# Altium schematic symbol library Schlib.SchLib: 10 symbols
Pins are listed as number, name and electrical type; pins without a type are passive.

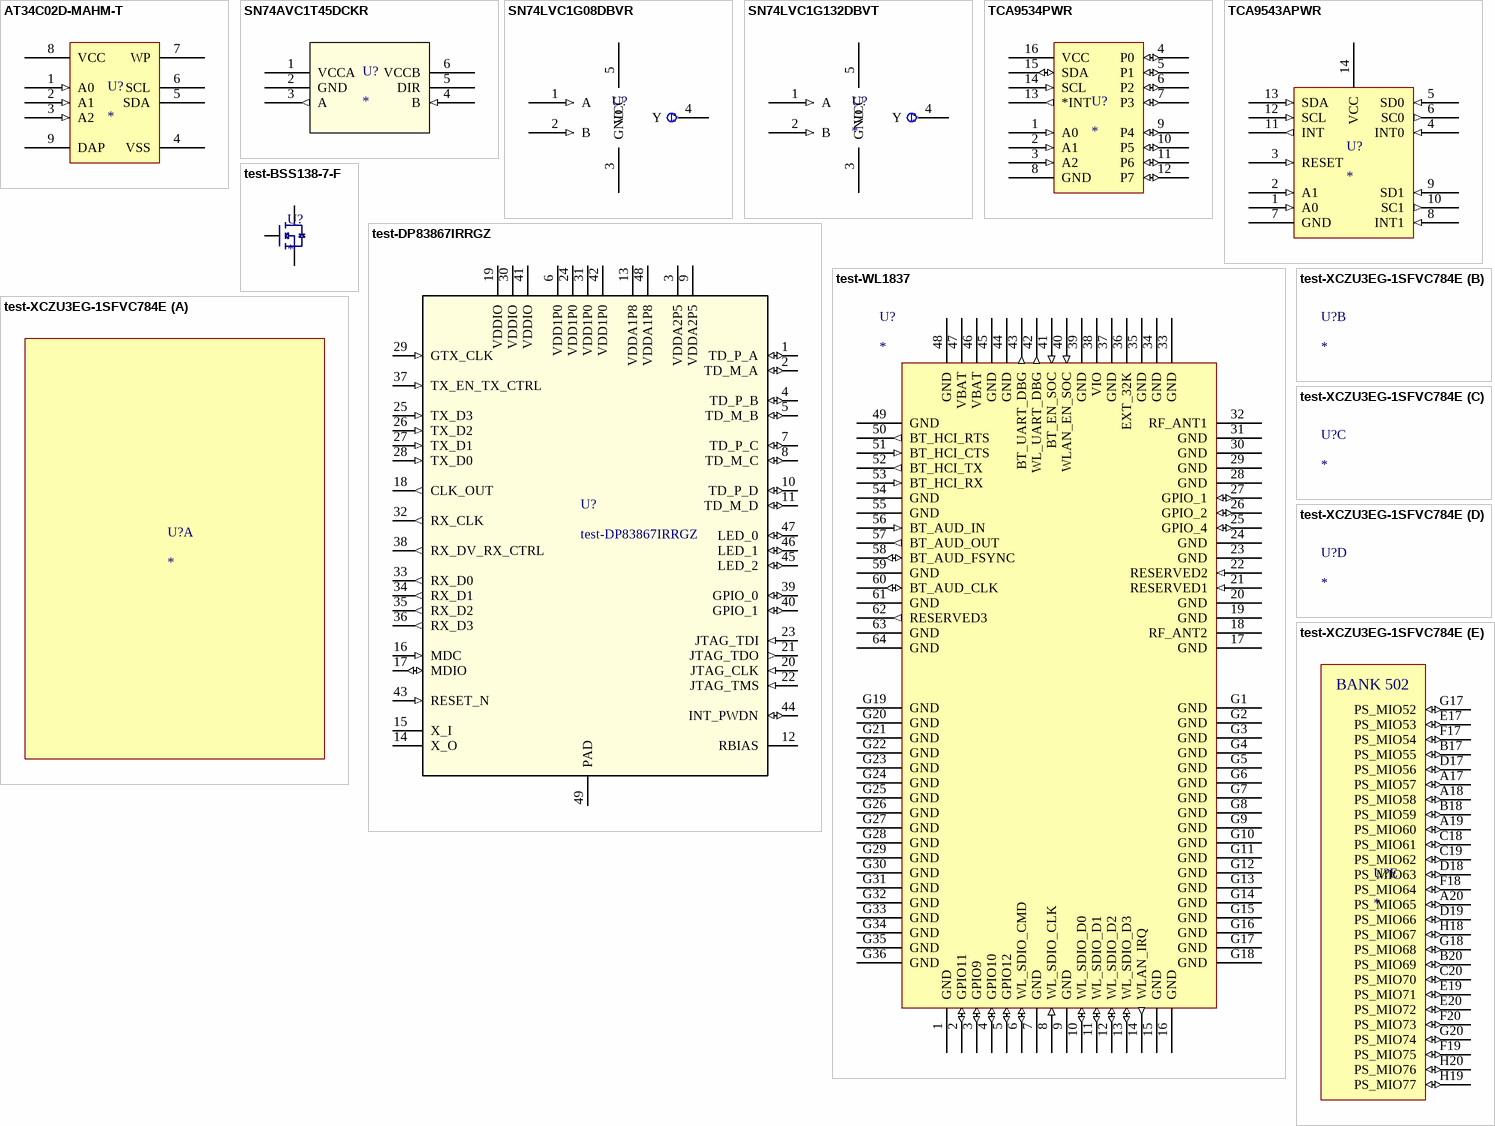
[diagram p0: symbols AT34C02D-MAHM-T to test-XCZU3EG-1SFVC784E]

## AT34C02D-MAHM-T
designator U?
IC EEPROM 2KBIT 1MHZ 8UDFN; Manufacturer: Microchip Technology; Manufacturer Part Number: AT34C02D-MAHM-T; Detailed Description: EEPROM Memory IC 2Kb (256 x 8) I²C 1MHz 8-UDFN (2x3); Memory Type: Non-Volatile; Memory Size: 2Kb (256 x 8); Write Cycle Time - Word, Page: 5ms; Memory Interface: I²C; Voltage - Supply: 1.7 V ~ 5.5 V; Digi-Key Part Number: AT34C02D-MAHM-TTR-ND; Memory Format: EEPROM; Technology: EEPROM; Clock Frequency: 1MHz; Access Time: -; Operating Temperature: -40°C ~ 85°C (TA); Mounting Type: Surface Mount; Package / Case: 8-UFDFN Exposed Pad; Supplier Device Package: 8-UDFN (2x3)
footprint AT34C02D-MAHM-T (IC EEPROM 2KBIT 1MHZ 8UDFN)
pins: 1 A0 (in), 2 A1 (in), 3 A2 (in), 4 VSS (power), 5 SDA (power), 6 SCL (power), 7 WP (power), 8 VCC (power), 9 DAP (power)

## SN74AVC1T45DCKR
designator U?
IC BUS TRANSCVR TRI-ST SC70-6; Manufacturer: Texas Instruments; Manufacturer Part Number: SN74AVC1T45DCKR; Detailed Description: Voltage Level Translator Bidirectional 1 Circuit 1 Channel 500Mbps SC-70-6; Translator Type: Voltage Level; Channel Type: Bidirectional; Number of Circuits: 1; Voltage - VCCA: 1.2V ~ 3.6V; Output Type: Tri-State, Non-Inverted; Data Rate: 500Mbps; Digi-Key Part Number: 296-17992-1-ND; Series: 74AVC; Channels per Circuit: 1; Voltage - VCCB: 1.2V ~ 3.6V; Input Signal: -; Output Signal: -; Operating Temperature: -40°C ~ 85°C (TA); Features: -; Mounting Type: Surface Mount; Package / Case: 6-TSSOP, SC-88, SOT-363; Supplier Device Package: SC-70-6
footprint SN74AVC1T45DCKR (IC BUS TRANSCVR TRI-ST SC70-6)
pins: 1 VCCA (power), 2 GND (power), 3 A (out), 4 B (in), 5 DIR, 6 VCCB (power)

## SN74LVC1G08DBVR
designator U?  (value not drawn)
IC GATE AND 1CH 2-INP SOT-23-5; Manufacturer: Texas Instruments; Manufacturer Part Number: SN74LVC1G08DBVR; Detailed Description: AND Gate IC 1 Channel SOT-23-5; Logic Type: AND Gate; Number of Circuits: 1; Number of Inputs: 2; Voltage - Supply: 1.65 V ~ 5.5 V; Current - Quiescent (Max): 10µA; Current - Output High, Low: 32mA, 32mA; Max Propagation Delay @ V, Max CL: 4ns @ 5V, 50pF; Digi-Key Part Number: 296-11601-1-ND; Series: 74LVC; Features: -; Logic Level - Low: -; Logic Level - High: -; Operating Temperature: -40°C ~ 125°C; Mounting Type: Surface Mount; Supplier Device Package: SOT-23-5; Package / Case: SC-74A, SOT-753
footprint SN74LVC1G08DBVR (IC GATE AND 1CH 2-INP SOT-23-5)
footprint Model Name (Footprint not found)
pins: 1 A (in), 2 B (in), 3 GND (power), 4 Y (out), 5 VCC (power)

## SN74LVC1G132DBVT
designator U?
IC GATE NAND 1CH 2-INP SOT-23-5; Manufacturer Part Number: SN74LVC1G132DBVT; Manufacturer: Texas Instruments; Detailed Description: NAND Gate IC 1 Channel Schmitt Trigger SOT-23-5; Logic Type: NAND Gate; Number of Circuits: 1; Number of Inputs: 2; Voltage - Supply: 1.65 V ~ 5.5 V; Current - Quiescent (Max): 10µA; Current - Output High, Low: 32mA, 32mA; Logic Level - Low: 0.39 V ~ 1.87 V; Logic Level - High: 1.16 V ~ 3.33 V; Max Propagation Delay @ V, Max CL: 5ns @ 5V, 50pF; Digi-Key Part Number: 296-32295-1-ND; Series: 74LVC; Features: Schmitt Trigger; Operating Temperature: -40°C ~ 125°C; Mounting Type: Surface Mount; Supplier Device Package: SOT-23-5; Package / Case: SC-74A, SOT-753
footprint SN74LVC1G132DBVT
pins: 1 A (in), 2 B (in), 3 GND (power), 4 Y (out), 5 VCC (power)

## TCA9534PWR
designator U?
IC I/O EXPANDER I2C 8B 16TSSOP; Manufacturer: Texas Instruments; Manufacturer Part Number: TCA9534PWR; Number of I/O: 8; Interface: I²C; Interrupt Output: Yes; Output Type: Push-Pull; Clock Frequency: 400kHz; Voltage - Supply: 1.65 V ~ 5.5 V; Detailed Description: I/O Expander 8 I²C 400kHz 16-TSSOP; Series: -; Features: -; Current-Output Source/Sink: -; Operating Temperature: -40°C ~ 85°C; Mounting Type: Surface Mount; Package / Case: 16-TSSOP (0.173", 4.40mm Width); Supplier Device Package: 16-TSSOP; Digi-Key Part Number: 296-40574-1-ND
footprint TCA9534PWR (I/O Expander 8 I²C 400kHz 16-TSSOP)
pins: 1 A0 (in), 2 A1 (in), 3 A2 (in), 4 P0 (io), 5 P1 (io), 6 P2 (io), 7 P3 (io), 8 GND (power), 9 P4 (io), 10 P5 (io), 11 P6 (io), 12 P7 (io), 13 *INT (out), 14 SCL (in), 15 SDA (io), 16 VCC (power)

## TCA9543APWR
designator U?
IC I2C SW 2CH W/RESET 14TSSOP; Manufacturer: Texas Instruments; Manufacturer Part Number: TCA9543APWR; Detailed Description: Bus Switch 2 x 1:2 14-TSSOP; Circuit: 2 x 1:2; Independent Circuits: 1; Voltage Supply Source: Single Supply; Voltage - Supply: 1.65 V ~ 5.5 V; Digi-Key Part Number: 296-42157-1-ND; Type: Bus Switch; Current - Output High, Low: -; Operating Temperature: -40°C ~ 85°C; Mounting Type: Surface Mount; Package / Case: 14-TSSOP (0.173", 4.40mm Width); Supplier Device Package: 14-TSSOP
footprint TCA9543APWR (IC I2C SW 2CH W/RESET 14TSSOP)
pins: 1 A0 (in), 2 A1 (in), 3 RESET (in), 4 INT0 (in), 5 SD0 (in), 6 SC0 (out), 7 GND (power), 8 INT1 (in), 9 SD1 (in), 10 SC1 (out), 11 INT (out), 12 SCL (in), 13 SDA (in), 14 VCC (power)

## test-BSS138-7-F
designator U?
pins: 1, 1, 1

## test-DP83867IRRGZ
designator U?
Ethernet 10/100/1000 Base-TX PHY; Manufacturer: Texas Instruments; Manufacturer Part Number: DP83867IRRGZR; Function: Physical Layer Controller; Interface: Serial; Voltage-Supply: 1.1V, 2.5V; Current-Supply: 157mA; Detailed Description: Ethernet Physical Layer Controller 10/100/1000 Base-TX PHY Serial Interface 48-VQFN (7x7); Protocol: Ethernet; Standards: 10/100/1000 Base-TX PHY; Operating Temperature: -40 ~85 C; Package/Case: 48-VFQFN Exposed Pad; Supplier Device Package: 48-VQFN (7x7); Digi-Key part Number: DP83867IRRGZR-ND; Mount Type: SMT
footprint DP83867IRRGZR (Ethernet Switch)
pins: 1 TD_P_A (io), 2 TD_M_A (io), 3 VDDA2P5 (power), 4 TD_P_B (io), 5 TD_M_B (io), 6 VDD1P0 (power), 7 TD_P_C (io), 8 TD_M_C (io), 9 VDDA2P5 (power), 10 TD_P_D (io), 11 TD_M_D (io), 12 RBIAS, 13 VDDA1P8 (power), 14 X_O, 15 X_I, 16 MDC (in), 17 MDIO (io), 18 CLK_OUT (out), 19 VDDIO (power), 20 JTAG_CLK (in), 21 JTAG_TDO (out), 22 JTAG_TMS (in), 23 JTAG_TDI (in), 24 VDD1P0 (power), 25 TX_D3 (in), 26 TX_D2 (in), 27 TX_D1 (in), 28 TX_D0 (in), 29 GTX_CLK (in), 30 VDDIO (power), 31 VDD1P0 (power), 32 RX_CLK (out), 33 RX_D0 (out), 34 RX_D1 (out), 35 RX_D2 (out), 36 RX_D3 (out), 37 TX_EN_TX_CTRL (in), 38 RX_DV_RX_CTRL (out), 39 GPIO_0 (io), 40 GPIO_1 (io), 41 VDDIO (power), 42 VDD1P0 (power), 43 RESET_N (in), 44 INT_PWDN (io), 45 LED_2 (io), 46 LED_1 (io), 47 LED_0 (io), 48 VDDA1P8 (power), 49 PAD (power)

## test-WL1837
designator U?
MODULE WIFI WILINK; Manufacturer: Texas Instruments; Manufacturer Part Number: WL1837MODGIMOCR; Frequency: 2.4GHz, 5GHz; RF Family/Standard: Bluetooth, WiFi; Protocol: 802.11a/b/g/n, Bluetooth v4.1; Data Rate: 54Mbps; Power - Output: 18dBi; Sensitivity: -95dBm; Serial Interfaces: SDIO, UART; Antenna Type: Integrated, Chip; Voltage - Supply: 2.9 V ~ 4.8 V; Current - Receiving: 49mA ~ 85mA; Current - Transmitting: 243mA ~ 510mA; Modulation: CCK, DSSS, GFSK, OFDM; Category: RF/IF and RFID; Mounting Type: Surface Mount; Operating Temperature: -40°C ~ 85°C; Package / Case: 100-SMD Module; Packaging: Cut Tape; Memory Size: -; Supplier: Digi-Key; Supplier Part Number: 296-44790-1-ND
footprint WL1837MODGIMOCR (WL18x7MOD is a Wi-Fi,  dual-band, 2.4- and 5-GHz module solution)
pins: 1 GND (power), 2 GPIO11 (io), 3 GPIO9 (io), 4 GPIO10 (io), 5 GPIO12 (io), 6 WL_SDIO_CMD (io), 7 GND (power), 8 WL_SDIO_CLK (in), 9 GND (power), 10 WL_SDIO_D0 (io), 11 WL_SDIO_D1 (io), 12 WL_SDIO_D2 (io), 13 WL_SDIO_D3 (io), 14 WLAN_IRQ (out), 15 GND (power), 16 GND (power), 17 GND (power), 18 RF_ANT2, 19 GND (power), 20 GND (power), 21 RESERVED1 (in), 22 RESERVED2 (in), 23 GND (power), 24 GND (power), 25 GPIO_4 (io), 26 GPIO_2 (io), 27 GPIO_1 (io), 28 GND (power), 29 GND (power), 30 GND (power), 31 GND (power), 32 RF_ANT1, 33 GND (power), 34 GND (power), 35 GND (power), 36 EXT_32K, 37 GND (power), 38 VIO (power), 39 GND (power), 40 WLAN_EN_SOC (in), 41 BT_EN_SOC (in), 42 WL_UART_DBG (out), 43 BT_UART_DBG (out), 44 GND (power), 45 GND (power), 46 VBAT (power), 47 VBAT (power), 48 GND (power), 49 GND (power), 50 BT_HCI_RTS (out), 51 BT_HCI_CTS (in), 52 BT_HCI_TX (out), 53 BT_HCI_RX (in), 54 GND (power), 55 GND (power), 56 BT_AUD_IN (in), 57 BT_AUD_OUT (out), 58 BT_AUD_FSYNC (io), 59 GND (power), 60 BT_AUD_CLK (io), 61 GND, 62 RESERVED3 (out), 63 GND (power), 64 GND (power), G1 GND (power), G2 GND (power), G3 GND (power), G4 GND (power), G5 GND (power), G6 GND (power), G7 GND (power), G8 GND (power), G9 GND (power), G10 GND (power), G11 GND (power), G12 GND (power), G13 GND (power), G14 GND (power), G15 GND (power), G16 GND (power), G17 GND (power), G18 GND (power), G19 GND (power), G20 GND (power), G21 GND (power), G22 GND (power), G23 GND (power), G24 GND (power), G25 GND (power), G26 GND (power), G27 GND (power), G28 GND (power), G29 GND (power), G30 GND (power), G31 GND (power), G32 GND (power), G33 GND (power), G34 GND (power), G35 GND (power), G36 GND (power)

## test-XCZU3EG-1SFVC784E
designator U?
part E pins: A17 PS_MIO57 (io), A18 PS_MIO58 (io), A19 PS_MIO60 (io), A20 PS_MIO65 (io), B17 PS_MIO55 (io), B18 PS_MIO59 (io), B20 PS_MIO69 (io), C18 PS_MIO61 (io), C19 PS_MIO62 (io), C20 PS_MIO70 (io), D17 PS_MIO56 (io), D18 PS_MIO63 (io), D19 PS_MIO66 (io), E17 PS_MIO53 (io), E19 PS_MIO71 (io), E20 PS_MIO72 (io), F17 PS_MIO54 (io), F18 PS_MIO64 (io), F19 PS_MIO75 (io), F20 PS_MIO73 (io), G17 PS_MIO52 (io), G18 PS_MIO68 (io), G20 PS_MIO74 (io), H18 PS_MIO67 (io), H19 PS_MIO77 (io), H20 PS_MIO76 (io)
part E text: BANK 502